# Altium schematic symbol library SCH - MCU - INFINEON XMC - INFINEON XMC1302T028.SchLib: 1 symbol
Pins are listed as number, name and electrical type; pins without a type are passive.

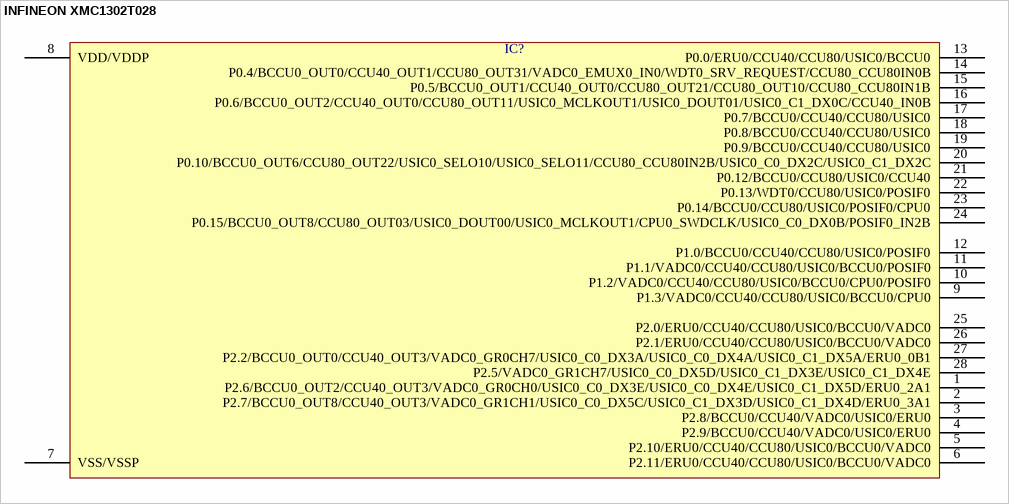
[diagram p0: symbol INFINEON XMC1302T028]

## INFINEON XMC1302T028
designator IC?  (value not drawn)
pins: 1 P2.6/BCCU0_OUT2/CCU40_OUT3/VADC0_GR0CH0/USIC0_C0_DX3E/USIC0_C0_DX4E/USIC0_C1_DX5D/ERU0_2A1, 2 P2.7/BCCU0_OUT8/CCU40_OUT3/VADC0_GR1CH1/USIC0_C0_DX5C/USIC0_C1_DX3D/USIC0_C1_DX4D/ERU0_3A1, 3 P2.8/BCCU0/CCU40/VADC0/USIC0/ERU0, 4 P2.9/BCCU0/CCU40/VADC0/USIC0/ERU0, 5 P2.10/ERU0/CCU40/CCU80/USIC0/BCCU0/VADC0, 6 P2.11/ERU0/CCU40/CCU80/USIC0/BCCU0/VADC0, 7 VSS/VSSP, 8 VDD/VDDP, 9 P1.3/VADC0/CCU40/CCU80/USIC0/BCCU0/CPU0, 10 P1.2/VADC0/CCU40/CCU80/USIC0/BCCU0/CPU0/POSIF0, 11 P1.1/VADC0/CCU40/CCU80/USIC0/BCCU0/POSIF0, 12 P1.0/BCCU0/CCU40/CCU80/USIC0/POSIF0, 13 P0.0/ERU0/CCU40/CCU80/USIC0/BCCU0, 14 P0.4/BCCU0_OUT0/CCU40_OUT1/CCU80_OUT31/VADC0_EMUX0_IN0/WDT0_SRV_REQUEST/CCU80_CCU80IN0B, 15 P0.5/BCCU0_OUT1/CCU40_OUT0/CCU80_OUT21/CCU80_OUT10/CCU80_CCU80IN1B, 16 P0.6/BCCU0_OUT2/CCU40_OUT0/CCU80_OUT11/USIC0_MCLKOUT1/USIC0_DOUT01/USIC0_C1_DX0C/CCU40_IN0B, 17 P0.7/BCCU0/CCU40/CCU80/USIC0, 18 P0.8/BCCU0/CCU40/CCU80/USIC0, 19 P0.9/BCCU0/CCU40/CCU80/USIC0, 20 P0.10/BCCU0_OUT6/CCU80_OUT22/USIC0_SELO10/USIC0_SELO11/CCU80_CCU80IN2B/USIC0_C0_DX2C/USIC0_C1_DX2C, 21 P0.12/BCCU0/CCU80/USIC0/CCU40, 22 P0.13/WDT0/CCU80/USIC0/POSIF0, 23 P0.14/BCCU0/CCU80/USIC0/POSIF0/CPU0, 24 P0.15/BCCU0_OUT8/CCU80_OUT03/USIC0_DOUT00/USIC0_MCLKOUT1/CPU0_SWDCLK/USIC0_C0_DX0B/POSIF0_IN2B, 25 P2.0/ERU0/CCU40/CCU80/USIC0/BCCU0/VADC0, 26 P2.1/ERU0/CCU40/CCU80/USIC0/BCCU0/VADC0, 27 P2.2/BCCU0_OUT0/CCU40_OUT3/VADC0_GR0CH7/USIC0_C0_DX3A/USIC0_C0_DX4A/USIC0_C1_DX5A/ERU0_0B1, 28 P2.5/VADC0_GR1CH7/USIC0_C0_DX5D/USIC0_C1_DX3E/USIC0_C1_DX4E